# Altium integrated library Mechanical.IntLib: 46 symbols
Pins are listed as number, name and electrical type; pins without a type are passive.

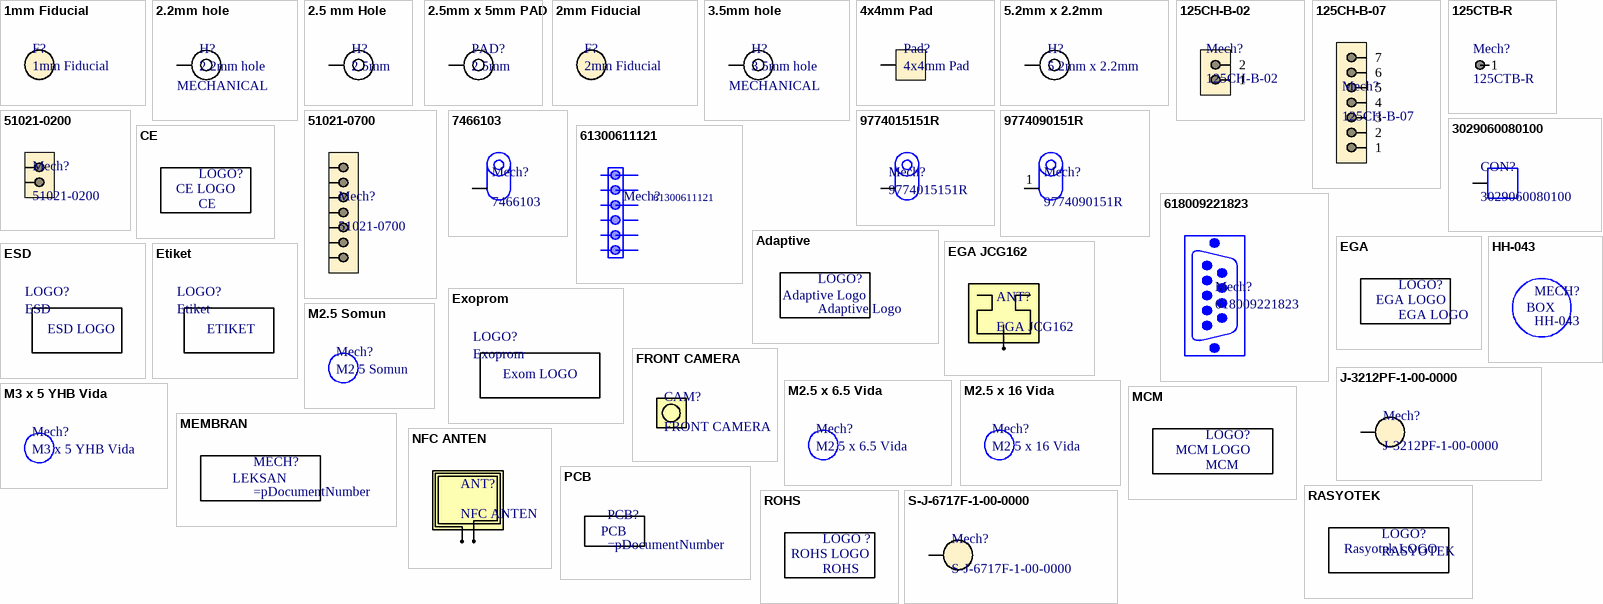
[diagram p0: symbols 1mm Fiducial to S-J-6717F-1-00-0000]

## 1mm Fiducial
designator F?  (no BOM)
Manufacturer Part Number: Fiducial 2mm; Purpose Of Usage: BASIC; Category: MECHANICAL; Sub-Category: FIDUCIAL; Manufacturer: --; Mount: NO MOUNT; Stock ID: ??
footprint 1mm Fiducial

## 2.2mm hole
designator H?  Category: MECHANICAL  (no BOM)
Purpose Of Usage: BASIC; Sub-Category: HOLE; Manufacturer: --; Manufacturer Part Number: --; Mount: NO MOUNT; Stock ID: ??
footprint 2.2mm hole
pins: 1

## 2.5 mm Hole
designator H?, comment 2.5mm  (no BOM)
2.5mm hole; Purpose Of Usage: BASIC; Category: MECHANICAL; Sub-Category: HOLE; Manufacturer: --; Manufacturer Part Number: --; Mount: NO MOUNT; Stock ID: ??
footprint 2.5mm hole
pins: 1

## 2.5mm x 5mm PAD
designator PAD?, comment 2.5mm  (no BOM)
5mm x 2.5mm Pad; Purpose Of Usage: BASIC; Category: MECHANICAL; Sub-Category: PAD; Manufacturer: --; Manufacturer Part Number: --; Mount: NO MOUNT; Stock ID: ??
footprint 2.5mm x 5mm
pins: 1

## 2mm Fiducial
designator F?  (no BOM)
Manufacturer Part Number: Fiducial 2mm; Purpose Of Usage: BASIC; Category: MECHANICAL; Sub-Category: FIDUCIAL; Manufacturer: --; Mount: NO MOUNT; Stock ID: ??
footprint 2mm Fiducial

## 3.5mm hole
designator H?  Category: MECHANICAL  (no BOM)
3.5mm delik; Purpose Of Usage: BASIC; Sub-Category: HOLE; Manufacturer: --; Manufacturer Part Number: --; Mount: NO MOUNT; Stock ID: ??
footprint 3.5mm hole
pins: 1

## 4x4mm Pad
designator Pad?  (no BOM)
Manufacturer Part Number: Fiducial 2mm; Purpose Of Usage: BASIC; Category: MECHANICAL; Sub-Category: FIDUCIAL; Manufacturer: --; Mount: NO MOUNT; Stock ID: ??
footprint 4x4mm Pad
pins: 1

## 5.2mm x 2.2mm
designator H?  (no BOM)
2.5mm hole; Purpose Of Usage: BASIC; Category: MECHANICAL; Sub-Category: PAD; Manufacturer: --; Manufacturer Part Number: --; Mount: NO MOUNT; Stock ID: ??
footprint 2.2mm x 5.2mm PAD
pins: 1

## 125CH-B-02
designator Mech?
Crimp; WiretoBoard; Secure Lock Wire to Board; Pin Header Housing 2P 1.25mmPitch | Adam Tech 125CH-B-02; Purpose Of Usage: BASIC; Manufacturer: Adam Tech; Manufacturer Part Number: 125CH-B-02; Category: MECHANICAL; Local Supplier: FUTURE; Mount: MECH; Price 10K: 0.0085; RoHS: YES; Stock ID: ??; Sub-Category: WIRE TO BOARD; Supplier 1: Digi-Key; Supplier Part Number 1: 2057-125CH-B-02-ND
footprint 125CH-B-02
text: 2; 1

## 125CH-B-07
designator Mech?
Crimp; WiretoBoard; Secure Lock WiretoBoard; Pin Header Housing 7P 1.25mmPitch; Manufacturer: Adam Tech; Purpose Of Usage: BASIC; Manufacturer Part Number: 125CH-B-07; RoHS: YES; Category: MECHANICAL; Local Supplier: FUTURE; Mount: MECH; Price 10K: 0.027; Stock ID: ??; Sub-Category: WIRE TO BOARD; Supplier 1: Digi-Key; Supplier Part Number 1: 2057-125CH-B-07-ND
footprint 125CH-B-07
text: 7; 6; 5; 4; 3; 2; 1

## 125CTB-R
designator Mech?
Crimp, Wire to Board, Secure Lock Wire to Board, Pin Header Housing Contact | Adam Tech 125CTB-R; Purpose Of Usage: BASIC; Manufacturer: Adam Tech; Manufacturer Part Number: 125CTB-R; Category: MECHANICAL; Local Supplier: FUTURE; Mount: MECH; Price 10K: 0.0055; RoHS: YES; Stock ID: ??; Sub-Category: CRIMP; Supplier 1: Digi-Key; Supplier Part Number 1: 2057-125CTB-RCT-ND
text: 1

## 51021-0200
designator Mech?
Product Range: MOLEX - PicoBlade 51021 SeriesContact Termination Type: CrimpGender: ReceptacleNo. of Contacts: 2No....; Purpose Of Usage: BASIC; Supplier 1: Digi-Key; Manufacturer: Molex; Manufacturer Part Number: 51021-0200; RoHS: YES; Category: MECHANICAL; Supplier Part Number 1: WM1720-ND; Mount: MECH; Stock ID: ??; Sub-Category: WIRE TO BOARD
footprint 51021-0200

## 51021-0700
designator Mech?
Product Range: MOLEX - PicoBlade 51021 SeriesContact Termination Type: CrimpGender: ReceptacleNo. of Contacts: 7No....; Purpose Of Usage: BASIC; Supplier 1: Digi-Key; Manufacturer: Molex; Manufacturer Part Number: 51021-0700; RoHS: YES; Category: MECHANICAL; Mount: MECH; Stock ID: ??; Sub-Category: WIRE TO BOARD; Supplier Part Number 1: 51021-0700
footprint 51021-0700

## 7466103
designator Mech?
Wire-To-Board Connector, Bush, Surface Mount, 1, Tin Plated Contacts Rohs Compliant: Yes; Manufacturer: Wurth Electronics; Purpose Of Usage: BASIC; Supplier 1: Digi-Key; Manufacturer Part Number: 7466103; RoHS: YES; Category: MECHANICAL; Supplier Part Number 1: 732-5242-ND; Local Supplier: WURTH; Mount: SMD; Stock ID: ??; Sub-Category: SPACER
footprint 7466103 (SMT Steel Spacer with internal Thread M2.5, height 1.5mm)
pins: 1

## 9774015151R
designator Mech?
RND STNDFF M2.5X0.45 STEEL 1.5MM; Manufacturer: Wurth Electronics; Purpose Of Usage: BASIC; Supplier 1: Digi-Key; Supplier Part Number 1: 732-7068-1-ND; Manufacturer Part Number: 9774015151R; RoHS: YES; Category: MECHANICAL; Sub-Category: SPACER; Mount: SMD; Stock ID: ??; Local Supplier: WURTH
footprint 9774015151 (SMT Steel Spacer with internal Thread M2.5, height 1.5mm)
pins: 1

## 9774090151R
designator Mech?
Spacer Material: Steel Mounting: SMT Series: WA-SMSI Thread D: M2.5; Manufacturer: Wurth Electronics; Purpose Of Usage: BASIC; Supplier 1: Digi-Key; Manufacturer Part Number: 9774090151R; RoHS: YES; Category: MECHANICAL; Supplier Part Number 1: 732-7114-2-ND; Local Supplier: WURTH; Mount: SMD; Stock ID: ??; Sub-Category: SPACER
footprint 9774090151R
pins: 1

## 61300611121
designator Mech?
WR-PHD Pin Header, THT, pitch 2.54mm, Single Row, Vertical, 6pin; Manufacturer: Wurth Electronics; Purpose Of Usage: BASIC; Category: MECHANICAL; Sub-Category: PINHEADER; Manufacturer Part Number: 61300611121; Mount: MECH; Supplier 1: Digi-Key; Supplier Part Number 1: 732-5319-ND; Stock ID: ??; Local Supplier: WURTH
footprint 61300611121 (Pin Header, pitch 2.54 mm, THT, Vertical, single row, 6p)

## 618009221823
designator Mech?
D-sub Conn, Plug, 9POS, Idc; Manufacturer: Würth Elektronik; Purpose Of Usage: BASIC; Supplier 1: Digi-Key; Supplier Part Number 1: 732-618009221823-ND; Manufacturer Part Number: 618009221823; Category: MECHANICAL; Sub-Category: CONNECTOR; Mount: MECH; Stock ID: ??; Local Supplier: WURTH
footprint 618009221823

## 3029060080100
designator CON?
Smt Solderable Gasket, 6Mm X 8Mm X 10Mm Rohs Compliant: Yes |Wurth Elektronik 3029060080100; Manufacturer: Wurth Electronics; Purpose Of Usage: BASIC; Supplier 1: Digi-Key; Manufacturer Part Number: 3029060080100; RoHS: No; Category: MECHANICAL; Supplier Part Number 1: 732-14257-1-ND; Local Supplier: WURTH; Mount: SMD; Price 10K: 0.25; Stock ID: ??; Sub-Category: EMC GASKET
footprint 3029060080100 (Surface Mount Solderable Gasket, size 8x6mm)
pins: 1

## Adaptive
designator LOGO?, comment Adaptive Logo  (graphical)
Purpose Of Usage: BASIC; Category: MECHANICAL; Sub-Category: LOGO; Manufacturer: --; Manufacturer Part Number: Adaptive; Mount: NO MOUNT; Stock ID: ??
footprint Adaptive

## CE
designator LOGO?  (graphical)
CE LOGO; Purpose Of Usage: BASIC; Category: MECHANICAL; Sub-Category: LOGO; Manufacturer: --; Manufacturer Part Number: CE; Mount: NO MOUNT; Stock ID: ??
footprint CE

## EGA
designator LOGO?, comment EGA LOGO  (graphical)
Purpose Of Usage: BASIC; Category: MECHANICAL; Sub-Category: LOGO; Manufacturer: --; Manufacturer Part Number: EGA; Mount: NO MOUNT; Stock ID: ??
footprint EGA

## EGA JCG162
designator ANT?
4G FPC ANTENNA; Manufacturer: JC Antenna; Purpose Of Usage: BASIC; Local Supplier: JC ANTENNA; Category: MECHANICAL; Manufacturer Part Number: EGA JCG162; Stock ID: ??; Sub-Category: 4G ANTEN; Price 10K: 0.5; Mount: MECH; Supplier 1: JC Antenna; Supplier Part Number 1: EGA JCG162

## ESD
designator LOGO?  (graphical)
ESD LOGO; Purpose Of Usage: BASIC; Category: MECHANICAL; Sub-Category: LOGO; Manufacturer: --; Manufacturer Part Number: ESD; Mount: NO MOUNT; Stock ID: ??
footprint ESD

## Etiket
designator LOGO?  (graphical)
Etiket kutu; Purpose Of Usage: BASIC; Category: MECHANICAL; Sub-Category: LOGO; Manufacturer: --; Manufacturer Part Number: Etiket; Mount: NO MOUNT; Stock ID: ??
footprint ETIKET
text: ETIKET

## Exoprom
designator LOGO?  (graphical)
Exoprom LOGO; Purpose Of Usage: BASIC; Category: MECHANICAL; Sub-Category: LOGO; Manufacturer: --; Manufacturer Part Number: Exoprom; Mount: NO MOUNT; Stock ID: ??
footprint EXOM
text: Exom LOGO

## FRONT CAMERA
designator CAM?
FRONT CAMERA 5Mp; Manufacturer: SUPERTEK; Manufacturer Part Number: 8MP MIPI CAMERA; Purpose Of Usage: BASIC; Local Supplier: FUTURE; Category: MECHANICAL; Stock ID: ??; Sub-Category: CAMERA; Mount: MECH

## HH-043
designator MECH?
Manufacturer: Altınkaya Kutu; Purpose Of Usage: BASIC; Category: MECHANICAL; Local Supplier: Altınkaya Kutu; Manufacturer Part Number: HH-043; Mount: MECH; Price 10K: 1.5; Sub-Category: BOX; Supplier 1: Altınkaya Kutu; Supplier Part Number 1: YP-611; Stock ID: ??

## J-3212PF-1-00-0000
designator Mech?
Pogo - Male 4mm - 4.65mm; Manufacturer: YOKOWO; Purpose Of Usage: BASIC; Category: MECHANICAL; Local Supplier: YOKOWO; Manufacturer Part Number: J-3212PF-1-00-0000; Mount: MECH; RoHS: YES; Stock ID: ??; Sub-Category: POGO; Supplier 1: YOKOWO; Supplier Part Number 1: J-3212PF-1-00-0000; Price 10K: 0.2
footprint J-3212PF-1-00-0000
pins: 1

## M2.5 Somun
designator Mech?
Manufacturer: GENERIC; Manufacturer Part Number: Metric 2.5mm; Purpose Of Usage: BASIC; Category: MECHANICAL; Sub-Category: NUT; Mount: MECH; Supplier 1: Altınkaya Kutu; Supplier Part Number 1: VD-925; Stock ID: ??
footprint M2.5

## M2.5 x 6.5 Vida
designator Mech?
M2.5 x 6.5 YSB Vida; Manufacturer: GENERIC; Manufacturer Part Number: Metric 2.5mm x 6.5mm; Purpose Of Usage: BASIC; Category: MECHANICAL; Sub-Category: SCREW; Mount: MECH; Supplier 1: Altınkaya Kutu; Supplier Part Number 1: VD-325-16; Stock ID: ??
footprint M2.5 x 6.5mm

## M2.5 x 16 Vida
designator Mech?
M2.5 x 16 YSB Vida; Manufacturer: GENERIC; Manufacturer Part Number: Metric 2.5mm x 16mm; Purpose Of Usage: BASIC; Category: MECHANICAL; Sub-Category: BOLT; Mount: MECH; Supplier 1: Altınkaya Kutu; Supplier Part Number 1: VD-325-16; Stock ID: ??
footprint M2.5 x 16

## M3 x 5 YHB Vida
designator Mech?
Manufacturer: GENERIC; Manufacturer Part Number: Metric 3mm x 5mm; Purpose Of Usage: BASIC; Category: MECHANICAL; Sub-Category: BOLT; Mount: MECH; Stock ID: ??
footprint M3 x 5 YHB

## MCM
designator LOGO?  (graphical)
MCM Logo; Purpose Of Usage: BASIC; Category: MECHANICAL; Sub-Category: LOGO; Manufacturer: --; Manufacturer Part Number: MCM; Mount: NO MOUNT; Stock ID: ??
footprint MCM
text: MCM LOGO

## MEMBRAN
designator MECH?
Manufacturer: CUSTOM; Purpose Of Usage: BASIC; Category: MECHANICAL; Local Supplier: CUSTOM; Manufacturer Part Number: CUSTOM; Mount: MECH; Price 10K: 0.5; Stock ID: ??; Sub-Category: LEKSAN; Supplier 1: CUSTOM; Supplier Part Number 1: CUSTOM

## NFC ANTEN
designator ANT?
NFC FPC ANTENNA; Manufacturer: CUSTOM; Purpose Of Usage: BASIC; Category: MECHANICAL; Stock ID: ??; Sub-Category: NFC ANTEN; Manufacturer Part Number: NFC ANTEN; Mount: MECH

## PCB
designator PCB?  (mechanical)
Manufacturer: CUSTOM; Purpose Of Usage: BASIC; Category: MECHANICAL; Local Supplier: CUSTOM; Manufacturer Part Number: CUSTOM; Mount: MECH; Price 10K: 0.25; Stock ID: ??; Sub-Category: PCB; Supplier 1: CUSTOM; Supplier Part Number 1: CUSTOM

## RASYOTEK
designator LOGO?  (graphical)
Purpose Of Usage: BASIC; Category: MECHANICAL; Sub-Category: LOGO; Manufacturer: --; Manufacturer Part Number: RASYOTEK; Mount: NO MOUNT; Stock ID: ??
footprint Rasyotek
text: Rasyotek LOGO

## ROHS
designator LOGO ?  (graphical)
ROHS Logo; Purpose Of Usage: BASIC; Category: MECHANICAL; Sub-Category: LOGO; Manufacturer: --; Manufacturer Part Number: ROHS; Mount: NO MOUNT; Stock ID: ??
footprint ROHS
text: ROHS LOGO

## S-J-6717F-1-00-0000
designator Mech?
Pogo - Female Presfit; Manufacturer: YOKOWO; Purpose Of Usage: BASIC; Category: MECHANICAL; Local Supplier: YOKOWO; Manufacturer Part Number: S-J-6717F-1-00-0000; Mount: MECH; RoHS: YES; Stock ID: ??; Sub-Category: POGO; Supplier 1: YOKOWO; Supplier Part Number 1: S-J-6717F-1-00-0000; Price 10K: 0.2
footprint S-J-6717F-1-00-0000
pins: 1

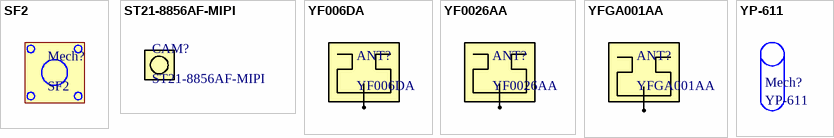
[diagram p1: symbols SF2 to YP-611]

## SF2
designator Mech?
SHT sensor CAP; Manufacturer: Sensirion; Purpose Of Usage: BASIC; Supplier 1: Digi-Key; Manufacturer Part Number: SF2; RoHS: YES; Mount: MECH; Supplier Part Number 1: 1649-1001-ND; Category: MECHANICAL; Sub-Category: SENSOR CAP; Stock ID: ??; Local Supplier: E-KOM; Price 10K: 1.7
footprint SF2

## ST21-8856AF-MIPI
designator CAM?
REAR CAMERA 8Mp WITH FLASH; Manufacturer: SUPERTEK; Purpose Of Usage: BASIC; Local Supplier: FUTURE; Category: MECHANICAL; Stock ID: ??; Sub-Category: CAMERA; Price 10K: 4.6; Manufacturer Part Number: ST21-8856AF-MIPI; Mount: MECH

## YF006DA
designator ANT?
4G FPC ANTENNA; Manufacturer: QUECTEL; Purpose Of Usage: BASIC; Local Supplier: AVNET; Category: MECHANICAL; Manufacturer Part Number: YF006DA; Stock ID: ??; Sub-Category: 4G ANTEN; Mount: MECH

## YF0026AA
designator ANT?
WIFI/BT FPC ANTENNA; Manufacturer: QUECTEL; Purpose Of Usage: BASIC; Local Supplier: AVNET; Category: MECHANICAL; Manufacturer Part Number: YF0026AA; Stock ID: ??; Sub-Category: WIFI/BT ANTEN; Mount: MECH

## YFGA001AA
designator ANT?
GNSS FPC ANTENNA; Manufacturer: QUECTEL; Purpose Of Usage: BASIC; Local Supplier: AVNET; Category: MECHANICAL; Manufacturer Part Number: YFGA001AA; Stock ID: ??; Sub-Category: GNSS ANTEN; Mount: MECH

## YP-611
designator Mech?
Distance 2.5mmx11mm; Manufacturer: Altınkaya Kutu; Purpose Of Usage: BASIC; Category: MECHANICAL; Sub-Category: SPACER; Manufacturer Part Number: YP-611; Mount: MECH; Supplier 1: Altınkaya Kutu; Supplier Part Number 1: YP-611; Stock ID: ??
footprint YP-611 - 11 mm